# Altium footprint library Broadcom.PcbLib: 2 footprints
Each footprint in its own frame and in the unit in brackets; x right, y up, seen from the top. Pads: shape width x height; smd on the part's side, far side on the other; paste and mask are expansions set on the pad; w line width, h text height; cw(c..) or ccw(c..) is an arc to the next point about the centre after c.
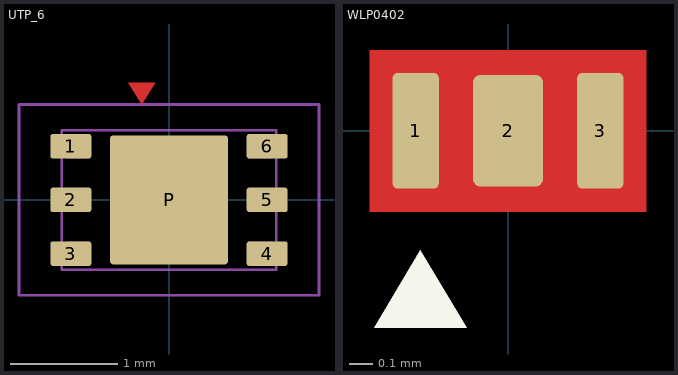
[diagram p0: the footprints below, top view; thin cyan lines are the x and y axes]

## UTP_6 [mil]
pads (7):
  rrect20% 15x9 smd paste-1 mask+1.5: 1(-36,19.68) 2(-36,0) 3(-36,-19.68) 4(36,-19.68) 5(36,0) 6(36,19.68)
  rrect5% 43.31x47.24 smd paste-100 mask+1.5: P(0,0)
Top Layer:
  region: -10,35 -5,43 -15,43
Top Paste:
  rectangle: -20,10 -10,22
  rectangle: -20,-5 -10,5
  rectangle: -20,-22 -10,-10
  rectangle: 10,-22 20,-10
  rectangle: 10,-5 20,5
  rectangle: 10,10 20,22
  rectangle: -5,10 5,22
  rectangle: -5,-5 5,5
  rectangle: -5,-22 5,-10
Top Designator:
  text ".Designator" at -127.64,-12.5 h35
Top Courtyard:
  lines w1: -55,-35 55,-35 55,35 -55,35 -55,-35
Top Component Outline:
  lines w1: -39.37,-25.59 -39.37,25.59 39.37,25.59 39.37,-25.59 -39.37,-25.59 ; -37.4,-23.62 -37.4,-15.75 -29.53,-15.75 -29.53,-23.62 -37.4,-23.62 ; -37.4,-3.94 -37.4,3.94 -29.53,3.94 -29.53,-3.94 -37.4,-3.94 ; -37.4,15.75 -37.4,23.62 -29.53,23.62 -29.53,15.75 -37.4,15.75 ; 29.53,-23.62 37.4,-23.62 37.4,-15.75 29.53,-15.75 29.53,-23.62 ; 29.53,-3.94 29.53,3.94 37.4,3.94 37.4,-3.94 29.53,-3.94 ; 29.53,15.75 29.53,23.62 37.4,23.62 37.4,15.75 29.53,15.75
3D body: height 15.75, standoff 0, extent -39.37,-25.59 39.37,25.59

## WLP0402 [mm]
pads (3):
  rrect20% 0.2x0.5 smd mask+0.025: 1(-0.4,0) 3(0.4,0)
  rrect20% 0.305x0.483 smd mask+0.025: 2(0,0)
Top Layer:
  pour cut-out: -0.6,0.35 0.6,0.35 0.6,-0.35 -0.6,-0.35
Top Overlay:
  region: -0.379,-0.517 -0.179,-0.855 -0.579,-0.855
Top Solder:
  rectangle: -0.55,-0.305 0.55,0.295
Top Designator:
  text ".Designator" at -1.853,-0.181 h0.51
3D body: height 0.1, standoff 0.01, extent -0.5,-0.25 0.5,0.25
3D body: height 0.25, standoff 0.1, extent -0.5,-0.25 0.5,0.25
3D body: height 0.25, standoff 0.1, extent -0.452,-0.127 -0.198,0.127